# Altium footprint library PcbLib1.pcblib: 15 footprints
Each footprint in its own frame and in the unit in brackets; x right, y up, seen from the top. Pads: shape width x height; smd on the part's side, far side on the other; paste and mask are expansions set on the pad; w line width, h text height; cw(c..) or ccw(c..) is an arc to the next point about the centre after c.
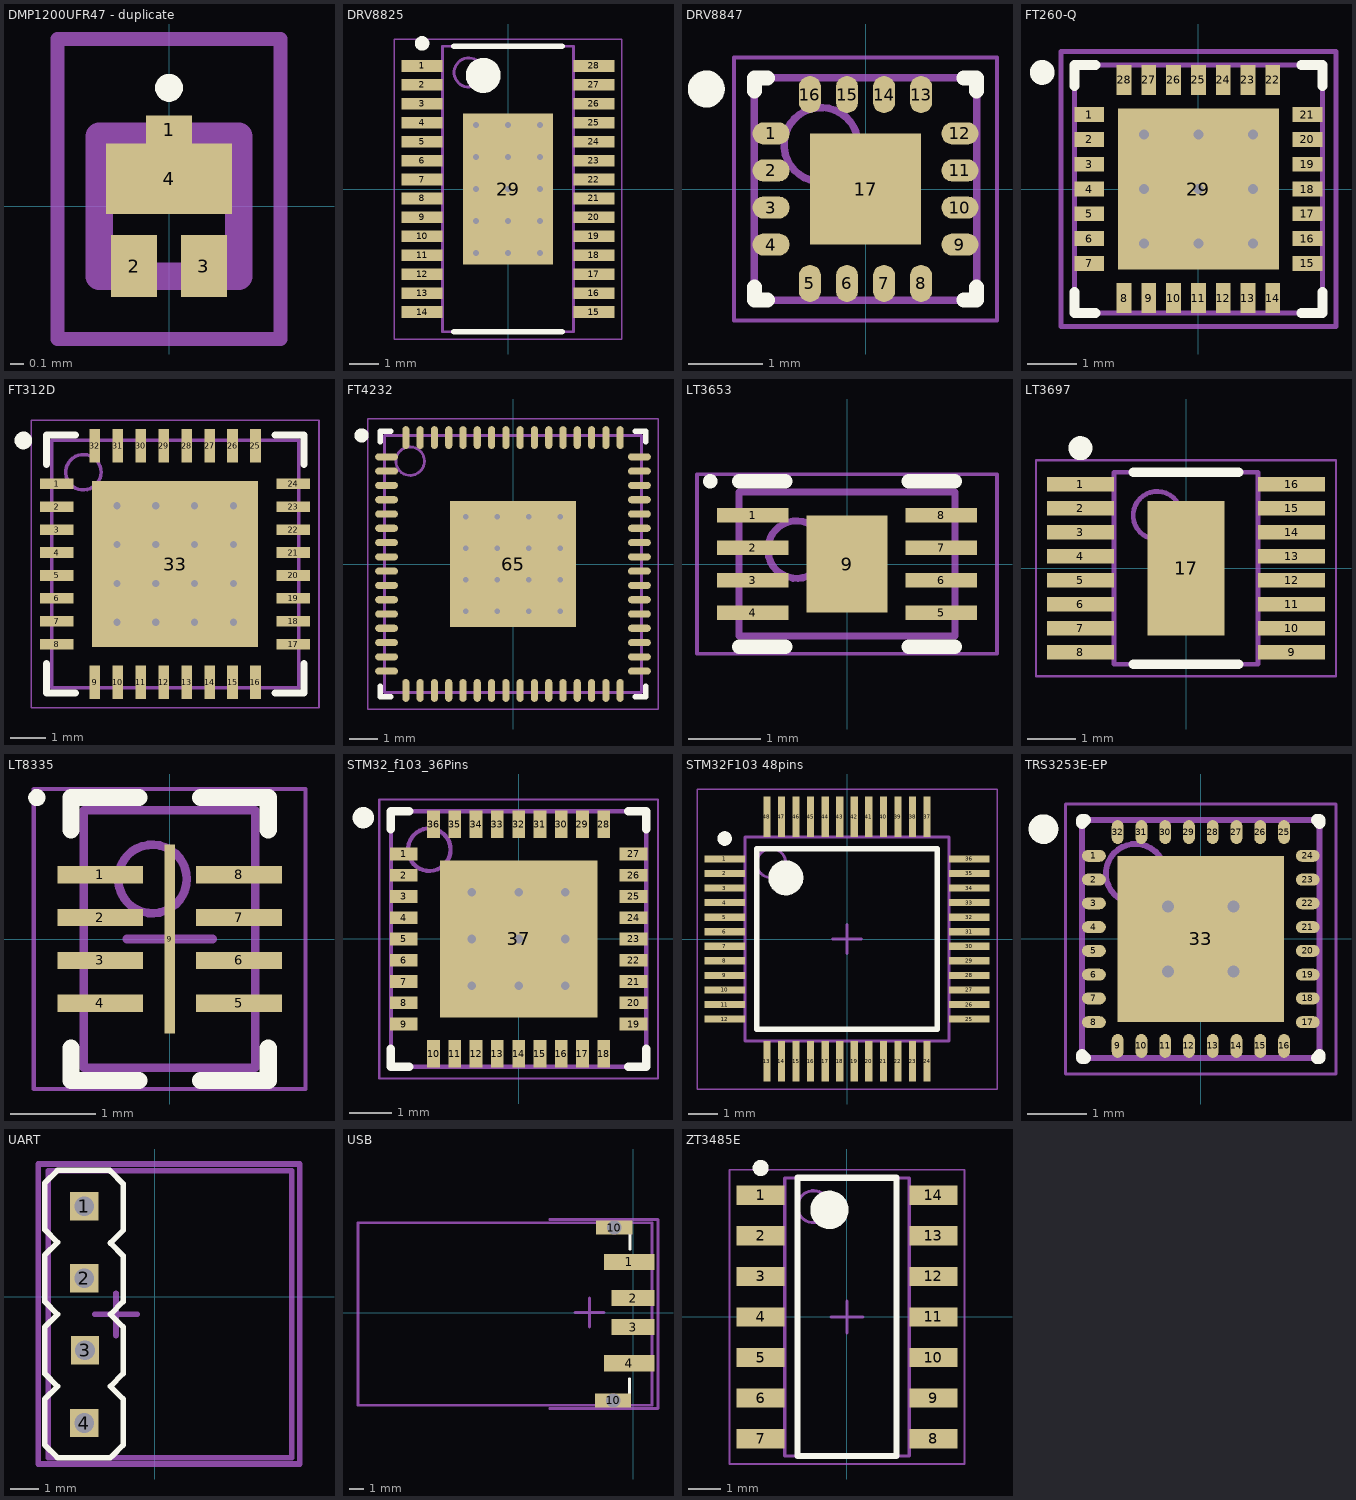
[diagram p0: the footprints below, top view; thin cyan lines are the x and y axes]

## DMP1200UFR47 - duplicate [mm]
pads (4):
  rect 0.33x0.2 smd: 1(0,0.55)
  rect 0.33x0.445 smd: 2(-0.25,-0.428) 3(0.25,-0.428)
  rect 0.9x0.505 smd: 4(0,0.197)
Top Overlay:
  lines w0.1: -0.05,0.85 ccw(c0,0.85) 0.05,0.85 ccw(c0,0.85) -0.05,0.85
Board:
  lines w0.2: -0.5,-0.5 -0.5,0.5 0.5,0.5 0.5,-0.5 -0.5,-0.5
Mechanical 20:
  lines w0.1: -0.8,-0.95 -0.8,1.2 0.8,1.2 0.8,-0.95 -0.8,-0.95

## DRV8825 [mm] "SOP127P600-8N"
height 1.2
pads (29):
  rect 1.4x0.4 smd: 1(-2.95,4.225) 2(-2.95,3.575) 3(-2.95,2.925) 4(-2.95,2.275) 5(-2.95,1.625) 6(-2.95,0.975) 7(-2.95,0.325) 8(-2.95,-0.325) 9(-2.95,-0.975) 10(-2.95,-1.625) 11(-2.95,-2.275) 12(-2.95,-2.925) 13(-2.95,-3.575) 14(-2.95,-4.225) 15(2.95,-4.225) 16(2.95,-3.575) 17(2.95,-2.925) 18(2.95,-2.275) 19(2.95,-1.625) 20(2.95,-0.975) 21(2.95,-0.325) 22(2.95,0.325) 23(2.95,0.975) 24(2.95,1.625) 25(2.95,2.275) 26(2.95,2.925) 27(2.95,3.575) 28(2.95,4.225)
  rect 3.1x5.18 smd: 29(0,0)
via 1.1,-2.2 diameter 0.5 hole 0.2
via 0,-2.2 diameter 0.5 hole 0.2
via -1.1,-2.2 diameter 0.5 hole 0.2
via 1.1,-1.1 diameter 0.5 hole 0.2
via 0,-1.1 diameter 0.5 hole 0.2
via -1.1,-1.1 diameter 0.5 hole 0.2
via 1.1,0 diameter 0.5 hole 0.2
via 0,0 diameter 0.5 hole 0.2
via -1.1,0 diameter 0.5 hole 0.2
via 1.1,1.1 diameter 0.5 hole 0.2
via 0,1.1 diameter 0.5 hole 0.2
via -1.1,1.1 diameter 0.5 hole 0.2
via 1.1,2.2 diameter 0.5 hole 0.2
via 0,2.2 diameter 0.5 hole 0.2
via -1.1,2.2 diameter 0.5 hole 0.2
Top Overlay:
  circle w0.6: c-0.85,3.9 r0.3
  circle w0.25: c-2.95,5 r0.125
  lines w0.2: -1.85,-4.9 1.85,-4.9 ; -1.85,4.9 1.85,4.9
3D View:
  circle w0.1: c-1.35,4 r0.5
  lines w0.1: -2.25,-4.9 2.25,-4.9 2.25,4.9 -2.25,4.9 -2.25,-4.9
Board:
  lines w0.05: -3.9,-5.15 3.9,-5.15 3.9,5.15 -3.9,5.15 -3.9,-5.15
  lines w0.1: -0.5,0 0.5,0 ; 0,-0.5 0,0.5
3D body "DRV8825.step": height 1.2, standoff 0, extent -3.2,-4.9 3.2,4.9

## DRV8847 [mm] "PQFN127P600-8N"
height 0.75
pads (17):
  oval 0.5x0.3 smd: 1(-1.275,0.75) 2(-1.275,0.25) 3(-1.275,-0.25) 4(-1.275,-0.75) 9(1.275,-0.75) 10(1.275,-0.25) 11(1.275,0.25) 12(1.275,0.75)
  oval 0.3x0.5 smd: 5(-0.75,-1.275) 6(-0.25,-1.275) 7(0.25,-1.275) 8(0.75,-1.275) 13(0.75,1.275) 14(0.25,1.275) 15(-0.25,1.275) 16(-0.75,1.275)
  rect 1.5x1.5 smd: 17(0,0)
Top Overlay:
  circle w0.25: c-2.15,1.35 r0.125
  lines w0.2: -1.5,-1.325 -1.5,-1.5 -1.325,-1.5 ; -1.5,1.325 -1.5,1.5 -1.325,1.5 ; 1.325,-1.5 1.5,-1.5 1.5,-1.325 ; 1.325,1.5 1.5,1.5 1.5,1.325
3D View:
  circle w0.1: c-0.6,0.6 r0.5
  lines w0.1: -1.5,-1.5 -1.5,1.5 1.5,1.5 1.5,-1.5 -1.5,-1.5
Board:
  lines w0.05: -1.775,-1.775 -1.775,1.775 1.775,1.775 1.775,-1.775 -1.775,-1.775
  lines w0.1: -0.5,0 0.5,0 ; 0,-0.5 0,0.5
3D body "DRV8847.step": height 0.75, standoff 0, extent -1.5,-1.5 1.5,1.5

## FT260-Q [mm] "PQFN, 28-Leads, Body 5,00x5,00mm, Pitch 0,50mm, Thermal Pad 3,25x3,25mm, IPC Medium Density"
height 0.8
pads (29):
  rect 0.6x0.3 smd: 1(-2.2,1.5) 2(-2.2,1) 3(-2.2,0.5) 4(-2.2,0) 5(-2.2,-0.5) 6(-2.2,-1) 7(-2.2,-1.5) 15(2.2,-1.5) 16(2.2,-1) 17(2.2,-0.5) 18(2.2,0) 19(2.2,0.5) 20(2.2,1) 21(2.2,1.5)
  rect 0.3x0.6 smd: 8(-1.5,-2.2) 9(-1,-2.2) 10(-0.5,-2.2) 11(0,-2.2) 12(0.5,-2.2) 13(1,-2.2) 14(1.5,-2.2) 22(1.5,2.2) 23(1,2.2) 24(0.5,2.2) 25(0,2.2) 26(-0.5,2.2) 27(-1,2.2) 28(-1.5,2.2)
  rect 3.25x3.25 smd: 29(0,0)
via -1.1,1.1 diameter 0.5 hole 0.2
via 0,1.1 diameter 0.5 hole 0.2
via 1.1,1.1 diameter 0.5 hole 0.2
via -1.1,0 diameter 0.5 hole 0.2
via 0,0 diameter 0.5 hole 0.2
via 1.1,0 diameter 0.5 hole 0.2
via -1.1,-1.1 diameter 0.5 hole 0.2
via 0,-1.1 diameter 0.5 hole 0.2
via 1.1,-1.1 diameter 0.5 hole 0.2
Top Overlay:
  circle w0.25: c-3.15,2.35 r0.125
  lines w0.2: -2.5,-2.075 -2.5,-2.5 -2.075,-2.5 ; -2.5,2.075 -2.5,2.5 -2.075,2.5 ; 2.075,-2.5 2.5,-2.5 2.5,-2.075 ; 2.075,2.5 2.5,2.5 2.5,2.075
Top:
  lines w0.1: -2.5,-2.5 -2.5,-1.25 -2.5,1.25 -2.5,2.5 2.5,2.5 2.5,1.25 2.5,-1.25 2.5,-2.5 1.25,-2.5 -1.25,-2.5 -2.5,-2.5
Board:
  lines w0.1: -0.5,0 0.5,0 ; 0,-0.5 0,0.5 ; -2.775,-2.775 -2.775,2.775 2.775,2.775 2.775,-2.775 -2.775,-2.775
3D body "FT260-Q.step": height 0.8, standoff 0, extent -2.5,-2.5 2.5,2.5

## FT312D [mm] "QFN, 32-Leads, Body 7,00x7,00mm, Pitch 0,65mm, Thermal Pad 4,70x4,70mm, IPC Medium Density"
height 0.9
pads (33):
  rect 0.95x0.3 smd: 1(-13.4,12.325) 2(-13.4,11.675) 3(-13.4,11.025) 4(-13.4,10.375) 5(-13.4,9.725) 6(-13.4,9.075) 7(-13.4,8.425) 8(-13.4,7.775) 17(-6.7,7.775) 18(-6.7,8.425) 19(-6.7,9.075) 20(-6.7,9.725) 21(-6.7,10.375) 22(-6.7,11.025) 23(-6.7,11.675) 24(-6.7,12.325)
  rect 0.3x0.95 smd: 9(-12.325,6.7) 10(-11.675,6.7) 11(-11.025,6.7) 12(-10.375,6.7) 13(-9.725,6.7) 14(-9.075,6.7) 15(-8.425,6.7) 16(-7.775,6.7) 25(-7.775,13.4) 26(-8.425,13.4) 27(-9.075,13.4) 28(-9.725,13.4) 29(-10.375,13.4) 30(-11.025,13.4) 31(-11.675,13.4) 32(-12.325,13.4)
  rect 4.7x4.7 smd: 33(-10.05,10.05)
via -11.7,11.7 diameter 0.5 hole 0.2
via -10.6,11.7 diameter 0.5 hole 0.2
via -9.5,11.7 diameter 0.5 hole 0.2
via -8.4,11.7 diameter 0.5 hole 0.2
via -11.7,10.6 diameter 0.5 hole 0.2
via -10.6,10.6 diameter 0.5 hole 0.2
via -9.5,10.6 diameter 0.5 hole 0.2
via -8.4,10.6 diameter 0.5 hole 0.2
via -11.7,9.5 diameter 0.5 hole 0.2
via -10.6,9.5 diameter 0.5 hole 0.2
via -9.5,9.5 diameter 0.5 hole 0.2
via -8.4,9.5 diameter 0.5 hole 0.2
via -11.7,8.4 diameter 0.5 hole 0.2
via -10.6,8.4 diameter 0.5 hole 0.2
via -9.5,8.4 diameter 0.5 hole 0.2
via -8.4,8.4 diameter 0.5 hole 0.2
Top Overlay:
  circle w0.25: c-14.35,13.55 r0.125
  lines w0.2: -13.7,7.225 -13.7,6.4 -12.875,6.4 ; -13.7,12.875 -13.7,13.7 -12.875,13.7 ; -7.225,6.4 -6.4,6.4 -6.4,7.225 ; -7.225,13.7 -6.4,13.7 -6.4,12.875
3D View:
  circle w0.1: c-12.65,12.65 r0.5
  lines w0.1: -13.55,6.55 -13.55,13.55 -6.55,13.55 -6.55,6.55 -13.55,6.55
Board:
  lines w0.05: -14.125,5.975 -14.125,14.125 -5.975,14.125 -5.975,5.975 -14.125,5.975
  lines w0.1: -10.55,10.05 -9.55,10.05 ; -10.05,9.55 -10.05,10.55
3D body "FT312D.step": height 0.9, standoff 0, extent -13.6,6.5 -6.5,13.6

## FT4232 [mm] "QFN-64 9x9"
height 0.9
pads (65):
  oval 0.8x0.25 smd: 1(-4.425,3.75) 2(-4.425,3.25) 3(-4.425,2.75) 4(-4.425,2.25) 5(-4.425,1.75) 6(-4.425,1.25) 7(-4.425,0.75) 8(-4.425,0.25) 9(-4.425,-0.25) 10(-4.425,-0.75) 11(-4.425,-1.25) 12(-4.425,-1.75) 13(-4.425,-2.25) 14(-4.425,-2.75) 15(-4.425,-3.25) 16(-4.425,-3.75) 33(4.425,-3.75) 34(4.425,-3.25) 35(4.425,-2.75) 36(4.425,-2.25) 37(4.425,-1.75) 38(4.425,-1.25) 39(4.425,-0.75) 40(4.425,-0.25) 41(4.425,0.25) 42(4.425,0.75) 43(4.425,1.25) 44(4.425,1.75) 45(4.425,2.25) 46(4.425,2.75) 47(4.425,3.25) 48(4.425,3.75)
  oval 0.25x0.8 smd: 17(-3.75,-4.425) 18(-3.25,-4.425) 19(-2.75,-4.425) 20(-2.25,-4.425) 21(-1.75,-4.425) 22(-1.25,-4.425) 23(-0.75,-4.425) 24(-0.25,-4.425) 25(0.25,-4.425) 26(0.75,-4.425) 27(1.25,-4.425) 28(1.75,-4.425) 29(2.25,-4.425) 30(2.75,-4.425) 31(3.25,-4.425) 32(3.75,-4.425) 49(3.75,4.425) 50(3.25,4.425) 51(2.75,4.425) 52(2.25,4.425) 53(1.75,4.425) 54(1.25,4.425) 55(0.75,4.425) 56(0.25,4.425) 57(-0.25,4.425) 58(-0.75,4.425) 59(-1.25,4.425) 60(-1.75,4.425) 61(-2.25,4.425) 62(-2.75,4.425) 63(-3.25,4.425) 64(-3.75,4.425)
  rect 4.4x4.4 smd: 65(0,0)
via 1.65,-1.65 diameter 0.5 hole 0.2
via 0.55,-1.65 diameter 0.5 hole 0.2
via -0.55,-1.65 diameter 0.5 hole 0.2
via -1.65,-1.65 diameter 0.5 hole 0.2
via 1.65,-0.55 diameter 0.5 hole 0.2
via 0.55,-0.55 diameter 0.5 hole 0.2
via -0.55,-0.55 diameter 0.5 hole 0.2
via -1.65,-0.55 diameter 0.5 hole 0.2
via 1.65,0.55 diameter 0.5 hole 0.2
via 0.55,0.55 diameter 0.5 hole 0.2
via -0.55,0.55 diameter 0.5 hole 0.2
via -1.65,0.55 diameter 0.5 hole 0.2
via 1.65,1.65 diameter 0.5 hole 0.2
via 0.55,1.65 diameter 0.5 hole 0.2
via -0.55,1.65 diameter 0.5 hole 0.2
via -1.65,1.65 diameter 0.5 hole 0.2
Top Overlay:
  circle w0.25: c-5.3,4.5 r0.125
  lines w0.2: -4.65,-4.275 -4.65,-4.65 -4.275,-4.65 ; -4.65,4.275 -4.65,4.65 -4.275,4.65 ; 4.275,-4.65 4.65,-4.65 4.65,-4.275 ; 4.275,4.65 4.65,4.65 4.65,4.275
3D View:
  circle w0.1: c-3.6,3.6 r0.5
  lines w0.1: -4.5,-4.5 4.5,-4.5 4.5,4.5 -4.5,4.5 -4.5,-4.5
Board:
  lines w0.05: -5.075,-5.075 5.075,-5.075 5.075,5.075 -5.075,5.075 -5.075,-5.075
  lines w0.1: -0.5,0 0.5,0 ; 0,-0.5 0,0.5
3D body "FT4232.step": height 0.9, standoff 0, extent -4.55,-4.55 4.55,4.55

## LT3653 [mm] "SON, 8-Leads, Body 2,00x3,00mm, Pitch 0,45mm, Thermal Pad 1,35x1,12mm, IPC Medium Density"
height 0.8
pads (9):
  rect 1x0.2 smd: 1(-1.31,0.675) 2(-1.31,0.225) 3(-1.31,-0.225) 4(-1.31,-0.675) 5(1.31,-0.675) 6(1.31,-0.225) 7(1.31,0.225) 8(1.31,0.675)
  rect 1.12x1.35 smd: 9(0,0)
Top Overlay:
  circle w0.1: c-1.9,1.15 r0.05
  lines w0.2: -1.5,-1.15 -0.86,-1.15 ; -1.5,1.15 -0.86,1.15 ; 0.86,-1.15 1.5,-1.15 ; 0.86,1.15 1.5,1.15
3D View:
  circle w0.1: c-0.7,0.2 r0.4
  lines w0.1: -1.5,-1 -1.5,1 1.5,1 1.5,-1 -1.5,-1
Board:
  lines w0.05: -2.085,-1.25 -2.085,1.25 2.085,1.25 2.085,-1.25 -2.085,-1.25
  lines w0.1: -0.5,0 0.5,0 ; 0,-0.5 0,0.5
3D body "LT3653.step": height 0.8, standoff 0, extent -1.55,-1 1.55,1

## LT3697 [mm] "TSSOP, 16-Leads, Body 4,00x3,00mm, Pitch 0,50mm, Thermal Pad 2,80x1,60mm, IPC Medium Density"
height 1.1
pads (17):
  rect 1.4x0.3 smd: 1(-2.2,1.75) 2(-2.2,1.25) 3(-2.2,0.75) 4(-2.2,0.25) 5(-2.2,-0.25) 6(-2.2,-0.75) 7(-2.2,-1.25) 8(-2.2,-1.75) 9(2.2,-1.75) 10(2.2,-1.25) 11(2.2,-0.75) 12(2.2,-0.25) 13(2.2,0.25) 14(2.2,0.75) 15(2.2,1.25) 16(2.2,1.75)
  rect 1.6x2.8 smd: 17(0,0)
Top Overlay:
  circle w0.25: c-2.2,2.5 r0.125
  lines w0.2: -1.1,-2 1.1,-2 ; -1.1,2 1.1,2
3D View:
  circle w0.1: c-0.6,1.1 r0.5
  lines w0.1: -1.5,-2 -1.5,2 1.5,2 1.5,-2 -1.5,-2
Board:
  lines w0.05: -3.125,-2.25 -3.125,2.25 3.125,2.25 3.125,-2.25 -3.125,-2.25
  lines w0.1: -0.5,0 0.5,0 ; 0,-0.5 0,0.5
3D body "LT3697.step": height 1.1, standoff 0.01, extent -2.443,-2 2.443,2

## LT8335 [mm] "SON, 8-Leads, Body 3,00x2,00mm, Pitch 0,50mm, Thermal Pad 2,20x0,12mm, IPC Medium Density"
height 0.75
pads (9):
  rect 1x0.2 smd: 1(-0.81,0.75) 2(-0.81,0.25) 3(-0.81,-0.25) 4(-0.81,-0.75) 5(0.81,-0.75) 6(0.81,-0.25) 7(0.81,0.25) 8(0.81,0.75)
  rect 0.12x2.2 smd: 9(0,0)
Top Overlay:
  circle w0.1: c-1.55,1.65 r0.05
  lines w0.2: -1.15,-1.275 -1.15,-1.65 -0.36,-1.65 ; -1.15,1.275 -1.15,1.65 -0.36,1.65 ; 0.36,-1.65 1.15,-1.65 1.15,-1.275 ; 0.36,1.65 1.15,1.65 1.15,1.275
3D View:
  circle w0.1: c-0.2,0.7 r0.4
  lines w0.1: -1,-1.5 1,-1.5 1,1.5 -1,1.5 -1,-1.5
Board:
  lines w0.05: -1.585,-1.75 1.585,-1.75 1.585,1.75 -1.585,1.75 -1.585,-1.75
  lines w0.1: -0.5,0 0.5,0 ; 0,-0.5 0,0.5
3D body "SON50P200X75_HS-9N.step": height 0.75, standoff 0, extent -1.05,-1.5 1.05,1.5

## STM32_f103_36Pins [mm] "PQFN127P600-8N"
height 0.9
pads (37):
  rect 0.65x0.3 smd: 1(-2.7,2) 2(-2.7,1.5) 3(-2.7,1) 4(-2.7,0.5) 5(-2.7,0) 6(-2.7,-0.5) 7(-2.7,-1) 8(-2.7,-1.5) 9(-2.7,-2) 19(2.7,-2) 20(2.7,-1.5) 21(2.7,-1) 22(2.7,-0.5) 23(2.7,0) 24(2.7,0.5) 25(2.7,1) 26(2.7,1.5) 27(2.7,2)
  rect 0.3x0.65 smd: 10(-2,-2.7) 11(-1.5,-2.7) 12(-1,-2.7) 13(-0.5,-2.7) 14(0,-2.7) 15(0.5,-2.7) 16(1,-2.7) 17(1.5,-2.7) 18(2,-2.7) 28(2,2.7) 29(1.5,2.7) 30(1,2.7) 31(0.5,2.7) 32(0,2.7) 33(-0.5,2.7) 34(-1,2.7) 35(-1.5,2.7) 36(-2,2.7)
  rect 3.7x3.7 smd: 37(0,0)
via 1.1,-1.1 diameter 0.5 hole 0.2
via 0,-1.1 diameter 0.5 hole 0.2
via -1.1,-1.1 diameter 0.5 hole 0.2
via 1.1,0 diameter 0.5 hole 0.2
via 0,0 diameter 0.5 hole 0.2
via -1.1,0 diameter 0.5 hole 0.2
via 1.1,1.1 diameter 0.5 hole 0.2
via 0,1.1 diameter 0.5 hole 0.2
via -1.1,1.1 diameter 0.5 hole 0.2
Top Overlay:
  circle w0.25: c-3.65,2.85 r0.125
  lines w0.2: -3,-2.575 -3,-3 -2.575,-3 ; -3,2.575 -3,3 -2.575,3 ; 2.575,-3 3,-3 3,-2.575 ; 2.575,3 3,3 3,2.575
3D View:
  circle w0.1: c-2.1,2.1 r0.5
  lines w0.1: -3,-3 3,-3 3,3 -3,3 -3,-3
Board:
  lines w0.05: -3.275,-3.275 3.275,-3.275 3.275,3.275 -3.275,3.275 -3.275,-3.275
  lines w0.1: -0.5,0 0.5,0 ; 0,-0.5 0,0.5
3D body "STM32_f103_36Pins.step": height 0.9, standoff 0, extent -3,-3 3,3

## STM32F103 48pins [mm] "TSQFP, 48-Leads, Body 7,00x7,00mm, Pitch 0,50mm, IPC Medium Density"
height 1.6
pads (48):
  rect 1.4x0.25 smd: 1(-4.2,2.75) 2(-4.2,2.25) 3(-4.2,1.75) 4(-4.2,1.25) 5(-4.2,0.75) 6(-4.2,0.25) 7(-4.2,-0.25) 8(-4.2,-0.75) 9(-4.2,-1.25) 10(-4.2,-1.75) 11(-4.2,-2.25) 12(-4.2,-2.75) 25(4.2,-2.75) 26(4.2,-2.25) 27(4.2,-1.75) 28(4.2,-1.25) 29(4.2,-0.75) 30(4.2,-0.25) 31(4.2,0.25) 32(4.2,0.75) 33(4.2,1.25) 34(4.2,1.75) 35(4.2,2.25) 36(4.2,2.75)
  rect 0.25x1.4 smd: 13(-2.75,-4.2) 14(-2.25,-4.2) 15(-1.75,-4.2) 16(-1.25,-4.2) 17(-0.75,-4.2) 18(-0.25,-4.2) 19(0.25,-4.2) 20(0.75,-4.2) 21(1.25,-4.2) 22(1.75,-4.2) 23(2.25,-4.2) 24(2.75,-4.2) 37(2.75,4.2) 38(2.25,4.2) 39(1.75,4.2) 40(1.25,4.2) 41(0.75,4.2) 42(0.25,4.2) 43(-0.25,4.2) 44(-0.75,4.2) 45(-1.25,4.2) 46(-1.75,4.2) 47(-2.25,4.2) 48(-2.75,4.2)
Top Overlay:
  circle w0.6: c-2.1,2.1 r0.3
  circle w0.25: c-4.2,3.45 r0.125
  lines w0.2: -3.1,-3.1 3.1,-3.1 3.1,3.1 -3.1,3.1 -3.1,-3.1
3D View:
  circle w0.1: c-2.6,2.6 r0.5
  lines w0.1: -3.5,-3.5 3.5,-3.5 3.5,3.5 -3.5,3.5 -3.5,-3.5
Board:
  lines w0.05: -5.15,-5.15 5.15,-5.15 5.15,5.15 -5.15,5.15 -5.15,-5.15
  lines w0.1: -0.5,0 0.5,0 ; 0,-0.5 0,0.5
3D body "STM32F103 48pins.step": height 1.6, standoff 0, extent -4.5,-4.5 4.5,4.5

## TRS3253E-EP [mm] "PQFN, 32-Leads, Body 4,00x4,00mm, Pitch 0,40mm, Thermal Pad 2,80x2,80mm, IPC Medium Density"
height 0.9
pads (33):
  oval 0.4x0.2 smd: 1(-1.8,1.4) 2(-1.8,1) 3(-1.8,0.6) 4(-1.8,0.2) 5(-1.8,-0.2) 6(-1.8,-0.6) 7(-1.8,-1) 8(-1.8,-1.4) 17(1.8,-1.4) 18(1.8,-1) 19(1.8,-0.6) 20(1.8,-0.2) 21(1.8,0.2) 22(1.8,0.6) 23(1.8,1) 24(1.8,1.4)
  oval 0.2x0.4 smd: 9(-1.4,-1.8) 10(-1,-1.8) 11(-0.6,-1.8) 12(-0.2,-1.8) 13(0.2,-1.8) 14(0.6,-1.8) 15(1,-1.8) 16(1.4,-1.8) 25(1.4,1.8) 26(1,1.8) 27(0.6,1.8) 28(0.2,1.8) 29(-0.2,1.8) 30(-0.6,1.8) 31(-1,1.8) 32(-1.4,1.8)
  rect 2.8x2.8 smd: 33(0,0)
via -0.55,0.55 diameter 0.5 hole 0.2
via 0.55,0.55 diameter 0.5 hole 0.2
via -0.55,-0.55 diameter 0.5 hole 0.2
via 0.55,-0.55 diameter 0.5 hole 0.2
Top Overlay:
  circle w0.25: c-2.65,1.85 r0.125
  lines w0.2: -2,-1.95 -2,-2 -1.95,-2 ; -2,1.95 -2,2 -1.95,2 ; 1.95,-2 2,-2 2,-1.95 ; 1.95,2 2,2 2,1.95
3D View:
  circle w0.1: c-1.1,1.1 r0.5
  lines w0.1: -2,-2 -2,2 2,2 2,-2 -2,-2
Board:
  lines w0.05: -2.275,-2.275 -2.275,2.275 2.275,2.275 2.275,-2.275 -2.275,-2.275
  lines w0.1: -0.5,0 0.5,0 ; 0,-0.5 0,0.5
3D body "TRS3253E-EP.step": height 0.9, standoff 0, extent -2,-2 2,2

## UART [mm]
pads (4):
  rect 1x1 hole 0.7 square: 1(-2.5,3.2) 2(-2.5,0.65) 3(-2.475,-1.9) 4(-2.5,-4.475)
Top Overlay:
  lines w0.2: -3.9,-2.725 -3.45,-3.175 -3.9,-3.625 -3.9,-3.8 -3.9,-5.25 -3.45,-5.7 -1.575,-5.7 ; -3.9,-2.7 -3.9,-2.525 -3.9,-1.075 -3.45,-0.625 -3.9,-0.175 ; -3.9,-0.15 -3.9,0.025 -3.9,1.475 -3.45,1.925 -3.9,2.375 ; -3.9,2.4 -3.9,2.575 -3.9,4.025 -3.45,4.475 -1.6,4.475 -1.575,4.45 -1.125,4 -1.125,2.55 -1.125,2.375 ; -1.525,-5.65 -1.125,-5.25 -1.125,-5.075 -1.125,-3.625 -1.575,-3.175 -1.125,-2.725 -1.125,-2.7 -1.125,-2.525 -1.125,-1.075 -1.575,-0.625 -1.125,-0.175 -1.125,0 -1.125,1.45 -1.575,1.9 -1.125,2.35
3D View:
  lines w0.2: -3.775,-5.705 -3.775,4.455 4.845,4.455 4.845,-5.705 -3.775,-5.705
Board:
  lines w0.2: -2.125,-0.625 -0.625,-0.625 ; -1.375,-1.375 -1.375,0.125 ; -4.125,-5.925 -1.125,-5.925 5.125,-5.925 5.125,4.7 -4.125,4.7 -4.125,-5.925
3D body "User Library-PLS-4R gold.STEP": height 5.45, standoff -3, extent -3.775,-5.705 4.845,4.455

## USB [mm]
pads (6):
  rect 3.5x1.12 smd: 1(-0.25,3.5) 4(-0.25,-3.5)
  rect 3x1.12 smd: 2(0,1) 3(0,-1)
  rect 2.5x1 hole 1 square: 10(-1.375,-6.075) 10(-1.3,5.875)
Top Overlay:
  lines w0.2: -1.875,-6.2 -0.25,-6.2 -0.25,-4.575 ; -1.825,6 -0.2,6 -0.2,4.375
3D View:
  lines w0.2: -19,-6.403 -19,6.203 1.3,6.203 1.3,-6.403 -19,-6.403
Board:
  lines w0.2: -5.75,-6.625 -2.625,-6.625 1.725,-6.625 1.725,6.425 -5.75,6.425 ; -4,0 -2,0 ; -3,-1 -3,1
3D body "14381.stp": height 3.2, standoff -2.6, extent -19,-6.403 1.3,6.203

## ZT3485E [mm] "SOIC, 14-Leads, Body 8,65x3,90mm, Pitch 1,27mm, IPC Medium Density"
height 1.6
pads (14):
  rect 1.5x0.6 smd: 1(-2.7,3.81) 2(-2.7,2.54) 3(-2.7,1.27) 4(-2.7,0) 5(-2.7,-1.27) 6(-2.7,-2.54) 7(-2.7,-3.81) 8(2.7,-3.81) 9(2.7,-2.54) 10(2.7,-1.27) 11(2.7,0) 12(2.7,1.27) 13(2.7,2.54) 14(2.7,3.81)
Top Overlay:
  circle w0.6: c-0.55,3.35 r0.3
  circle w0.25: c-2.7,4.66 r0.125
  lines w0.2: -1.55,-4.35 1.55,-4.35 1.55,4.35 -1.55,4.35 -1.55,-4.35
3D View:
  circle w0.1: c-1.05,3.45 r0.5
  lines w0.1: -1.95,-4.35 1.95,-4.35 1.95,4.35 -1.95,4.35 -1.95,-4.35
Board:
  lines w0.05: -3.675,-4.6 3.675,-4.6 3.675,4.6 -3.675,4.6 -3.675,-4.6
  lines w0.1: -0.5,0 0.5,0 ; 0,-0.5 0,0.5
3D body "ZT3485E.step": height 1.6, standoff 0, extent -3,-4.35 3,4.35